# EAGLE library part XEM6310 (library opalkelly)
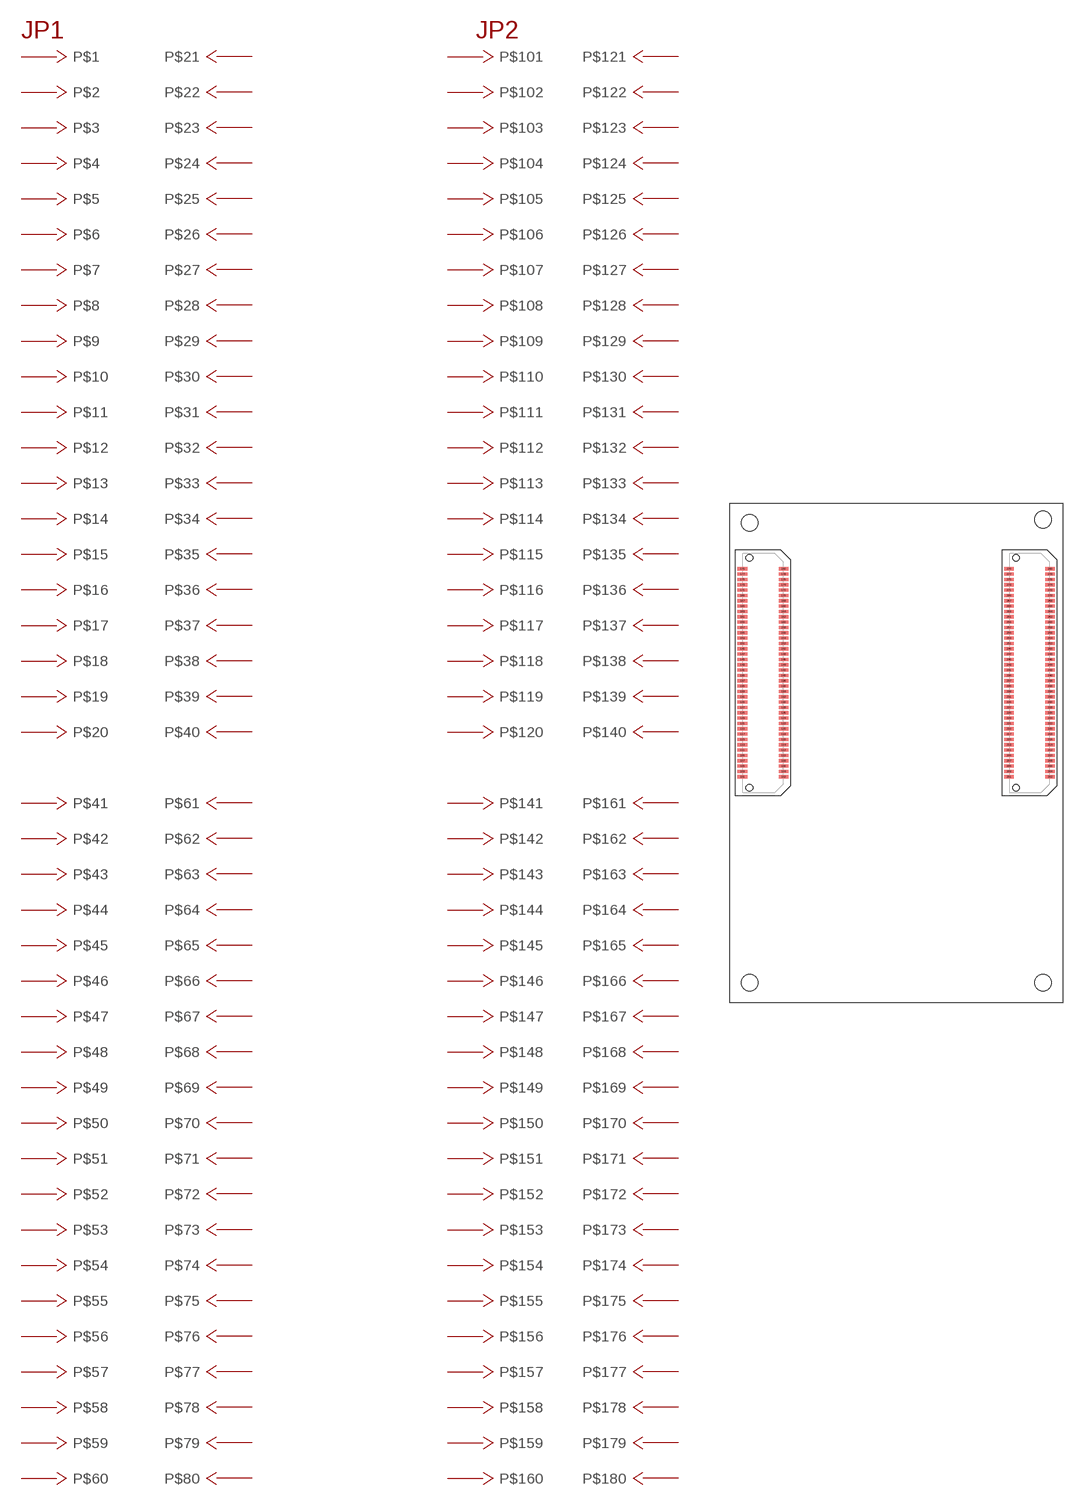
[diagram p0: symbol with the pads of XEM6310; footprint XEM6310]

Designator prefix J

## XEM6310  [XEM6310]
101  P$101
102  P$102
103  P$103
104  P$104
105  P$105
106  P$106
107  P$107
108  P$108
109  P$109
110  P$110
111  P$111
112  P$112
113  P$113
114  P$114
115  P$115
116  P$116
117  P$117
118  P$118
119  P$119
120  P$120
121  P$121
122  P$122
123  P$123
124  P$124
125  P$125
126  P$126
127  P$127
128  P$128
129  P$129
130  P$130
131  P$131
132  P$132
133  P$133
134  P$134
135  P$135
136  P$136
137  P$137
138  P$138
139  P$139
140  P$140
141  P$141
142  P$142
143  P$143
144  P$144
145  P$145
146  P$146
147  P$147
148  P$148
149  P$149
150  P$150
151  P$151
152  P$152
153  P$153
154  P$154
155  P$155
156  P$156
157  P$157
158  P$158
159  P$159
160  P$160
161  P$161
162  P$162
163  P$163
164  P$164
165  P$165
166  P$166
167  P$167
168  P$168
169  P$169
170  P$170
171  P$171
172  P$172
173  P$173
174  P$174
175  P$175
176  P$176
177  P$177
178  P$178
179  P$179
180  P$180
201  P$1
202  P$2
203  P$3
204  P$4
205  P$5
206  P$6
207  P$7
208  P$8
209  P$9
210  P$10
211  P$11
212  P$12
213  P$13
214  P$14
215  P$15
216  P$16
217  P$17
218  P$18
219  P$19
220  P$20
221  P$21
222  P$22
223  P$23
224  P$24
225  P$25
226  P$26
227  P$27
228  P$28
229  P$29
230  P$30
231  P$31
232  P$32
233  P$33
234  P$34
235  P$35
236  P$36
237  P$37
238  P$38
239  P$39
240  P$40
241  P$41
242  P$42
243  P$43
244  P$44
245  P$45
246  P$46
247  P$47
248  P$48
249  P$49
250  P$50
251  P$51
252  P$52
253  P$53
254  P$54
255  P$55
256  P$56
257  P$57
258  P$58
259  P$59
260  P$60
261  P$61
262  P$62
263  P$63
264  P$64
265  P$65
266  P$66
267  P$67
268  P$68
269  P$69
270  P$70
271  P$71
272  P$72
273  P$73
274  P$74
275  P$75
276  P$76
277  P$77
278  P$78
279  P$79
280  P$80

## Footprint XEM6310 (pad centres in mm)
smd 1.448 x 0.457: 101 -23.09,-15.6; 102 -16.92,-15.6; 103 -23.09,-14.8; 104 -16.92,-14.8; 105 -23.09,-14; 106 -16.92,-14; 107 -23.09,-13.2; 108 -16.92,-13.2; 109 -23.09,-12.4; 110 -16.92,-12.4; 111 -23.09,-11.6; 112 -16.92,-11.6; 113 -23.09,-10.8; 114 -16.92,-10.8; 115 -23.09,-10; 116 -16.92,-10; 117 -23.09,-9.2; 118 -16.92,-9.2; 119 -23.09,-8.4; 120 -16.92,-8.4; 121 -23.09,-7.6; 122 -16.92,-7.6; 123 -23.09,-6.8; 124 -16.92,-6.8; 125 -23.09,-6; 126 -16.92,-6; 127 -23.09,-5.2; 128 -16.92,-5.2; 129 -23.09,-4.4; 130 -16.92,-4.4; 131 -23.09,-3.6; 132 -16.92,-3.6; 133 -23.09,-2.8; 134 -16.92,-2.8; 135 -23.09,-2; 136 -16.92,-2; 137 -23.09,-1.2; 138 -16.92,-1.2; 139 -23.09,-0.4; 140 -16.92,-0.4; 141 -23.09,0.4; 142 -16.92,0.4; 143 -23.09,1.2; 144 -16.92,1.2; 145 -23.09,2; 146 -16.92,2; 147 -23.09,2.8; 148 -16.92,2.8; 149 -23.09,3.6; 150 -16.92,3.6; 151 -23.09,4.4; 152 -16.92,4.4; 153 -23.09,5.2; 154 -16.92,5.2; 155 -23.09,6; 156 -16.92,6; 157 -23.09,6.8; 158 -16.92,6.8; 159 -23.09,7.6; 160 -16.92,7.6; 161 -23.09,8.4; 162 -16.92,8.4; 163 -23.09,9.2; 164 -16.92,9.2; 165 -23.09,10; 166 -16.92,10; 167 -23.09,10.8; 168 -16.92,10.8; 169 -23.09,11.6; 170 -16.92,11.6; 171 -23.09,12.4; 172 -16.92,12.4; 173 -23.09,13.2; 174 -16.92,13.2; 175 -23.09,14; 176 -16.92,14; 177 -23.086,14.8; 178 -16.92,14.8; 179 -23.09,15.6; 180 -16.92,15.6; 201 16.91,-15.6; 202 23.08,-15.6; 203 16.91,-14.8; 204 23.08,-14.8; 205 16.91,-14; 206 23.08,-14; 207 16.91,-13.2; 208 23.08,-13.2; 209 16.91,-12.4; 210 23.08,-12.4; 211 16.91,-11.6; 212 23.08,-11.6; 213 16.91,-10.8; 214 23.08,-10.8; 215 16.91,-10; 216 23.08,-10; 217 16.91,-9.2; 218 23.08,-9.2; 219 16.91,-8.4; 220 23.08,-8.4; 221 16.91,-7.6; 222 23.08,-7.6; 223 16.91,-6.8; 224 23.08,-6.8; 225 16.91,-6; 226 23.08,-6; 227 16.91,-5.2; 228 23.08,-5.2; 229 16.91,-4.4; 230 23.08,-4.4; 231 16.91,-3.6; 232 23.08,-3.6; 233 16.91,-2.8; 234 23.08,-2.8; 235 16.91,-2; 236 23.08,-2; 237 16.91,-1.2; 238 23.08,-1.2; 239 16.91,-0.4; 240 23.08,-0.4; 241 16.91,0.4; 242 23.08,0.4; 243 16.91,1.2; 244 23.08,1.2; 245 16.91,2; 246 23.08,2; 247 16.91,2.8; 248 23.08,2.8; 249 16.91,3.6; 250 23.08,3.6; 251 16.91,4.4; 252 23.08,4.4; 253 16.91,5.2; 254 23.08,5.2; 255 16.91,6; 256 23.08,6; 257 16.91,6.8; 258 23.08,6.8; 259 16.91,7.6; 260 23.08,7.6; 261 16.91,8.4; 262 23.08,8.4; 263 16.91,9.2; 264 23.08,9.2; 265 16.91,10; 266 23.08,10; 267 16.91,10.8; 268 23.08,10.8; 269 16.91,11.6; 270 23.08,11.6; 271 16.91,12.4; 272 23.08,12.4; 273 16.91,13.2; 274 23.08,13.2; 275 16.91,14; 276 23.08,14; 277 16.914,14.8; 278 23.08,14.8; 279 16.91,15.6; 280 23.08,15.6
hole 1.016 at -22.032,-17.238
hole 1.016 at -22.032,17.238
hole 1.016 at 17.968,-17.238
hole 1.016 at 17.968,17.238